# Altium footprint library IPC-SM-782 Section 14.1.3 PBGA 1.0mm.PcbLib: 50 footprints (part 12 of 14)
Each footprint in its own frame and in the unit in brackets; x right, y up, seen from the top. Pads: shape width x height; smd on the part's side, far side on the other; paste and mask are expansions set on the pad; w line width, h text height; cw(c..) or ccw(c..) is an arc to the next point about the centre after c.
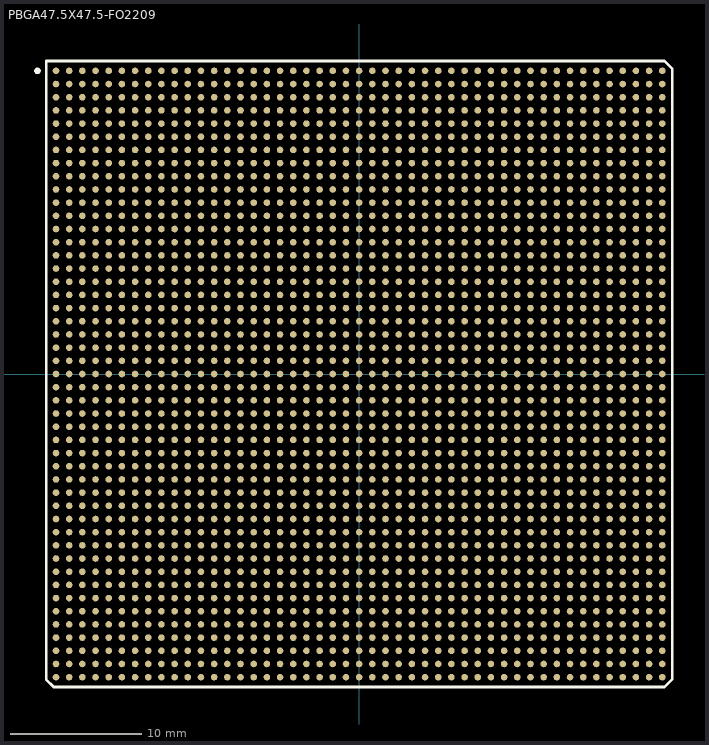
[diagram p11: the footprint, top view; thin cyan lines are the x and y axes]

## PBGA47.5X47.5-FO2209 [mm] "BGA; 2209 Balls; Body 47.5 x 47.5 mm; Pitch 1 mm"
height 3.5
pads (2209):
  round 0.5 smd: A1(-23,23) A2(-22,23) A3(-21,23) A4(-20,23) A5(-19,23) A6(-18,23) A7(-17,23) A8(-16,23) A9(-15,23) A10(-14,23) A11(-13,23) A12(-12,23) A13(-11,23) A14(-10,23) A15(-9,23) A16(-8,23) A17(-7,23) A18(-6,23) A19(-5,23) A20(-4,23) A21(-3,23) A22(-2,23) A23(-1,23) A24(0,23) A25(1,23) A26(2,23) A27(3,23) A28(4,23) A29(5,23) A30(6,23) A31(7,23) A32(8,23) A33(9,23) A34(10,23) A35(11,23) A36(12,23) A37(13,23) A38(14,23) A39(15,23) A40(16,23) A41(17,23) A42(18,23) A43(19,23) A44(20,23) A45(21,23) A46(22,23) A47(23,23) AA1(-23,3) AA2(-22,3) AA3(-21,3) AA4(-20,3) AA5(-19,3) AA6(-18,3) AA7(-17,3) AA8(-16,3) AA9(-15,3) AA10(-14,3) AA11(-13,3) AA12(-12,3) AA13(-11,3) AA14(-10,3) AA15(-9,3) AA16(-8,3) AA17(-7,3) AA18(-6,3) AA19(-5,3) AA20(-4,3) AA21(-3,3) AA22(-2,3) AA23(-1,3) AA24(0,3) AA25(1,3) AA26(2,3) AA27(3,3) AA28(4,3) AA29(5,3) AA30(6,3) AA31(7,3) AA32(8,3) AA33(9,3) AA34(10,3) AA35(11,3) AA36(12,3) AA37(13,3) AA38(14,3) AA39(15,3) AA40(16,3) AA41(17,3) AA42(18,3) AA43(19,3) AA44(20,3) AA45(21,3) AA46(22,3) AA47(23,3) AB1(-23,2) AB2(-22,2) AB3(-21,2) AB4(-20,2) AB5(-19,2) AB6(-18,2) AB7(-17,2) AB8(-16,2) AB9(-15,2) AB10(-14,2) AB11(-13,2) AB12(-12,2) AB13(-11,2) AB14(-10,2) AB15(-9,2) AB16(-8,2) AB17(-7,2) AB18(-6,2) AB19(-5,2) AB20(-4,2) AB21(-3,2) AB22(-2,2) AB23(-1,2) AB24(0,2) AB25(1,2) AB26(2,2) AB27(3,2) AB28(4,2) AB29(5,2) AB30(6,2) AB31(7,2) AB32(8,2) AB33(9,2) AB34(10,2) AB35(11,2) AB36(12,2) AB37(13,2) AB38(14,2) AB39(15,2) AB40(16,2) AB41(17,2) AB42(18,2) AB43(19,2) AB44(20,2) AB45(21,2) AB46(22,2) AB47(23,2) AC1(-23,1) AC2(-22,1) AC3(-21,1) AC4(-20,1) AC5(-19,1) AC6(-18,1) AC7(-17,1) AC8(-16,1) AC9(-15,1) AC10(-14,1) AC11(-13,1) AC12(-12,1) AC13(-11,1) AC14(-10,1) AC15(-9,1) AC16(-8,1) AC17(-7,1) AC18(-6,1) AC19(-5,1) AC20(-4,1) AC21(-3,1) AC22(-2,1) AC23(-1,1) AC24(0,1) AC25(1,1) AC26(2,1) AC27(3,1) AC28(4,1) AC29(5,1) AC30(6,1) AC31(7,1) AC32(8,1) AC33(9,1) AC34(10,1) AC35(11,1) AC36(12,1) AC37(13,1) AC38(14,1) AC39(15,1) AC40(16,1) AC41(17,1) AC42(18,1) AC43(19,1) AC44(20,1) AC45(21,1) AC46(22,1) AC47(23,1) AD1(-23,0) AD2(-22,0) AD3(-21,0) AD4(-20,0) AD5(-19,0) AD6(-18,0) AD7(-17,0) AD8(-16,0) AD9(-15,0) AD10(-14,0) AD11(-13,0) AD12(-12,0) AD13(-11,0) AD14(-10,0) AD15(-9,0) AD16(-8,0) AD17(-7,0) AD18(-6,0) AD19(-5,0) AD20(-4,0) AD21(-3,0) AD22(-2,0) AD23(-1,0) AD24(0,0) AD25(1,0) AD26(2,0) AD27(3,0) AD28(4,0) AD29(5,0) AD30(6,0) AD31(7,0) AD32(8,0) AD33(9,0) AD34(10,0) AD35(11,0) AD36(12,0) AD37(13,0) AD38(14,0) AD39(15,0) AD40(16,0) AD41(17,0) AD42(18,0) AD43(19,0) AD44(20,0) AD45(21,0) AD46(22,0) AD47(23,0) AE1(-23,-1) AE2(-22,-1) AE3(-21,-1) AE4(-20,-1) AE5(-19,-1) AE6(-18,-1) AE7(-17,-1) AE8(-16,-1) AE9(-15,-1) AE10(-14,-1) AE11(-13,-1) AE12(-12,-1) AE13(-11,-1) AE14(-10,-1) AE15(-9,-1) AE16(-8,-1) AE17(-7,-1) AE18(-6,-1) AE19(-5,-1) AE20(-4,-1) AE21(-3,-1) AE22(-2,-1) AE23(-1,-1) AE24(0,-1) AE25(1,-1) AE26(2,-1) AE27(3,-1) AE28(4,-1) AE29(5,-1) AE30(6,-1) AE31(7,-1) AE32(8,-1) AE33(9,-1) AE34(10,-1) AE35(11,-1) AE36(12,-1) AE37(13,-1) AE38(14,-1) AE39(15,-1) AE40(16,-1) AE41(17,-1) AE42(18,-1) AE43(19,-1) AE44(20,-1) AE45(21,-1) AE46(22,-1) AE47(23,-1) AF1(-23,-2) AF2(-22,-2) AF3(-21,-2) AF4(-20,-2) AF5(-19,-2) AF6(-18,-2) AF7(-17,-2) AF8(-16,-2) AF9(-15,-2) AF10(-14,-2) AF11(-13,-2) AF12(-12,-2) AF13(-11,-2) AF14(-10,-2) AF15(-9,-2) AF16(-8,-2) AF17(-7,-2) AF18(-6,-2) AF19(-5,-2) AF20(-4,-2) AF21(-3,-2) AF22(-2,-2) AF23(-1,-2) AF24(0,-2) AF25(1,-2) AF26(2,-2) AF27(3,-2) AF28(4,-2) AF29(5,-2) AF30(6,-2) AF31(7,-2) AF32(8,-2) AF33(9,-2) AF34(10,-2) AF35(11,-2) AF36(12,-2) AF37(13,-2) AF38(14,-2) AF39(15,-2) AF40(16,-2) AF41(17,-2) AF42(18,-2) AF43(19,-2) AF44(20,-2) AF45(21,-2) AF46(22,-2) AF47(23,-2) AG1(-23,-3) AG2(-22,-3) AG3(-21,-3) AG4(-20,-3) AG5(-19,-3) AG6(-18,-3) AG7(-17,-3) AG8(-16,-3) AG9(-15,-3) AG10(-14,-3) AG11(-13,-3) AG12(-12,-3) AG13(-11,-3) AG14(-10,-3) AG15(-9,-3) AG16(-8,-3) AG17(-7,-3) AG18(-6,-3) AG19(-5,-3) AG20(-4,-3) AG21(-3,-3) AG22(-2,-3) AG23(-1,-3) AG24(0,-3) AG25(1,-3) AG26(2,-3) AG27(3,-3) AG28(4,-3) AG29(5,-3) AG30(6,-3) AG31(7,-3) AG32(8,-3) AG33(9,-3) AG34(10,-3) AG35(11,-3) AG36(12,-3) AG37(13,-3) AG38(14,-3) AG39(15,-3) AG40(16,-3) AG41(17,-3) AG42(18,-3) AG43(19,-3) AG44(20,-3) AG45(21,-3) AG46(22,-3) AG47(23,-3) AH1(-23,-4) AH2(-22,-4) AH3(-21,-4) AH4(-20,-4) AH5(-19,-4) AH6(-18,-4) AH7(-17,-4) AH8(-16,-4) AH9(-15,-4) AH10(-14,-4) AH11(-13,-4) AH12(-12,-4) AH13(-11,-4) AH14(-10,-4) AH15(-9,-4) AH16(-8,-4) AH17(-7,-4) AH18(-6,-4) AH19(-5,-4) AH20(-4,-4) AH21(-3,-4) AH22(-2,-4) AH23(-1,-4) AH24(0,-4) AH25(1,-4) AH26(2,-4) AH27(3,-4) AH28(4,-4) AH29(5,-4) AH30(6,-4) AH31(7,-4) AH32(8,-4) AH33(9,-4) AH34(10,-4) AH35(11,-4) AH36(12,-4) AH37(13,-4) AH38(14,-4) AH39(15,-4) AH40(16,-4) AH41(17,-4) AH42(18,-4) AH43(19,-4) AH44(20,-4) AH45(21,-4) AH46(22,-4) AH47(23,-4) AJ1(-23,-5) AJ2(-22,-5) AJ3(-21,-5) AJ4(-20,-5) AJ5(-19,-5) AJ6(-18,-5) AJ7(-17,-5) AJ8(-16,-5) AJ9(-15,-5) AJ10(-14,-5) AJ11(-13,-5) AJ12(-12,-5) AJ13(-11,-5) AJ14(-10,-5) AJ15(-9,-5) AJ16(-8,-5) AJ17(-7,-5) AJ18(-6,-5) AJ19(-5,-5) AJ20(-4,-5) AJ21(-3,-5) AJ22(-2,-5) AJ23(-1,-5) AJ24(0,-5) AJ25(1,-5) AJ26(2,-5) AJ27(3,-5) AJ28(4,-5) AJ29(5,-5) AJ30(6,-5) AJ31(7,-5) AJ32(8,-5) AJ33(9,-5) AJ34(10,-5) AJ35(11,-5) AJ36(12,-5) AJ37(13,-5) AJ38(14,-5) AJ39(15,-5) AJ40(16,-5) AJ41(17,-5) AJ42(18,-5) AJ43(19,-5) AJ44(20,-5) AJ45(21,-5) AJ46(22,-5) AJ47(23,-5) AK1(-23,-6) AK2(-22,-6) AK3(-21,-6) AK4(-20,-6) AK5(-19,-6) AK6(-18,-6) AK7(-17,-6) AK8(-16,-6) AK9(-15,-6) AK10(-14,-6) AK11(-13,-6) AK12(-12,-6) AK13(-11,-6) AK14(-10,-6) AK15(-9,-6) AK16(-8,-6) AK17(-7,-6) AK18(-6,-6) AK19(-5,-6) AK20(-4,-6) AK21(-3,-6) AK22(-2,-6) AK23(-1,-6) AK24(0,-6) AK25(1,-6) AK26(2,-6) AK27(3,-6) AK28(4,-6) AK29(5,-6) AK30(6,-6) AK31(7,-6) AK32(8,-6) AK33(9,-6) AK34(10,-6) AK35(11,-6) AK36(12,-6) AK37(13,-6) AK38(14,-6) AK39(15,-6) AK40(16,-6) AK41(17,-6) AK42(18,-6) AK43(19,-6) AK44(20,-6) AK45(21,-6) AK46(22,-6) AK47(23,-6) AL1(-23,-7) AL2(-22,-7) AL3(-21,-7) AL4(-20,-7) AL5(-19,-7) AL6(-18,-7) AL7(-17,-7) AL8(-16,-7) AL9(-15,-7) AL10(-14,-7) AL11(-13,-7) AL12(-12,-7) AL13(-11,-7) AL14(-10,-7) AL15(-9,-7) AL16(-8,-7) AL17(-7,-7) AL18(-6,-7) AL19(-5,-7) AL20(-4,-7) AL21(-3,-7) AL22(-2,-7) AL23(-1,-7) AL24(0,-7) AL25(1,-7) AL26(2,-7) AL27(3,-7) AL28(4,-7) AL29(5,-7) AL30(6,-7) AL31(7,-7) AL32(8,-7) AL33(9,-7) AL34(10,-7) AL35(11,-7) AL36(12,-7) AL37(13,-7) AL38(14,-7) AL39(15,-7) AL40(16,-7) AL41(17,-7) AL42(18,-7) AL43(19,-7) AL44(20,-7) AL45(21,-7) AL46(22,-7) AL47(23,-7) AM1(-23,-8) AM2(-22,-8) AM3(-21,-8) AM4(-20,-8) AM5(-19,-8) AM6(-18,-8) AM7(-17,-8) AM8(-16,-8) AM9(-15,-8) AM10(-14,-8) AM11(-13,-8) AM12(-12,-8) AM13(-11,-8) AM14(-10,-8) AM15(-9,-8) AM16(-8,-8) AM17(-7,-8) AM18(-6,-8) AM19(-5,-8) AM20(-4,-8) AM21(-3,-8) AM22(-2,-8) AM23(-1,-8) AM24(0,-8) AM25(1,-8) AM26(2,-8) AM27(3,-8) AM28(4,-8) AM29(5,-8) AM30(6,-8) AM31(7,-8) AM32(8,-8) AM33(9,-8) AM34(10,-8) AM35(11,-8) AM36(12,-8) AM37(13,-8) AM38(14,-8) AM39(15,-8) AM40(16,-8) AM41(17,-8) AM42(18,-8) AM43(19,-8) AM44(20,-8) AM45(21,-8) AM46(22,-8) AM47(23,-8) AN1(-23,-9) AN2(-22,-9) AN3(-21,-9) AN4(-20,-9) AN5(-19,-9) AN6(-18,-9) AN7(-17,-9) AN8(-16,-9) AN9(-15,-9) AN10(-14,-9) AN11(-13,-9) AN12(-12,-9) AN13(-11,-9) AN14(-10,-9) AN15(-9,-9) AN16(-8,-9) AN17(-7,-9) AN18(-6,-9) AN19(-5,-9) AN20(-4,-9) AN21(-3,-9) AN22(-2,-9) AN23(-1,-9) AN24(0,-9) AN25(1,-9) AN26(2,-9) AN27(3,-9) AN28(4,-9) AN29(5,-9) AN30(6,-9) AN31(7,-9) AN32(8,-9) AN33(9,-9) AN34(10,-9) AN35(11,-9) AN36(12,-9) AN37(13,-9) AN38(14,-9) AN39(15,-9) AN40(16,-9) AN41(17,-9) AN42(18,-9) AN43(19,-9) AN44(20,-9) AN45(21,-9) AN46(22,-9) AN47(23,-9) AP1(-23,-10) AP2(-22,-10) AP3(-21,-10) AP4(-20,-10) AP5(-19,-10) AP6(-18,-10) AP7(-17,-10) AP8(-16,-10) AP9(-15,-10) AP10(-14,-10) AP11(-13,-10) AP12(-12,-10) AP13(-11,-10) AP14(-10,-10) AP15(-9,-10) AP16(-8,-10) AP17(-7,-10) AP18(-6,-10) AP19(-5,-10) AP20(-4,-10) AP21(-3,-10) AP22(-2,-10) AP23(-1,-10) AP24(0,-10) AP25(1,-10) AP26(2,-10) AP27(3,-10) AP28(4,-10) AP29(5,-10) AP30(6,-10) AP31(7,-10) AP32(8,-10) AP33(9,-10) AP34(10,-10) AP35(11,-10) AP36(12,-10) AP37(13,-10) AP38(14,-10) AP39(15,-10) AP40(16,-10) AP41(17,-10) AP42(18,-10) AP43(19,-10) AP44(20,-10) AP45(21,-10) AP46(22,-10) AP47(23,-10) AR1(-23,-11) AR2(-22,-11) AR3(-21,-11) AR4(-20,-11) AR5(-19,-11) AR6(-18,-11) AR7(-17,-11) AR8(-16,-11) AR9(-15,-11) AR10(-14,-11) AR11(-13,-11) AR12(-12,-11) AR13(-11,-11) AR14(-10,-11) AR15(-9,-11) AR16(-8,-11) AR17(-7,-11) AR18(-6,-11) AR19(-5,-11) AR20(-4,-11) AR21(-3,-11) AR22(-2,-11) AR23(-1,-11) AR24(0,-11) AR25(1,-11) AR26(2,-11) AR27(3,-11) AR28(4,-11) AR29(5,-11) AR30(6,-11) AR31(7,-11) AR32(8,-11) AR33(9,-11) AR34(10,-11) AR35(11,-11) AR36(12,-11) AR37(13,-11) AR38(14,-11) AR39(15,-11) AR40(16,-11) AR41(17,-11) AR42(18,-11) AR43(19,-11) AR44(20,-11) AR45(21,-11) AR46(22,-11) AR47(23,-11) AT1(-23,-12) AT2(-22,-12) AT3(-21,-12) AT4(-20,-12) AT5(-19,-12) AT6(-18,-12) AT7(-17,-12) AT8(-16,-12) AT9(-15,-12) AT10(-14,-12) AT11(-13,-12) AT12(-12,-12) AT13(-11,-12) AT14(-10,-12) AT15(-9,-12) AT16(-8,-12) AT17(-7,-12) AT18(-6,-12) AT19(-5,-12) AT20(-4,-12) AT21(-3,-12) AT22(-2,-12) AT23(-1,-12) AT24(0,-12) AT25(1,-12) AT26(2,-12) AT27(3,-12) AT28(4,-12) AT29(5,-12) AT30(6,-12) AT31(7,-12) AT32(8,-12) AT33(9,-12) AT34(10,-12) AT35(11,-12) AT36(12,-12) AT37(13,-12) AT38(14,-12) AT39(15,-12) AT40(16,-12) AT41(17,-12) AT42(18,-12) AT43(19,-12) AT44(20,-12) AT45(21,-12) AT46(22,-12) AT47(23,-12) AU1(-23,-13) AU2(-22,-13) AU3(-21,-13) AU4(-20,-13) AU5(-19,-13) AU6(-18,-13) AU7(-17,-13) AU8(-16,-13) AU9(-15,-13) AU10(-14,-13) AU11(-13,-13) AU12(-12,-13) AU13(-11,-13) AU14(-10,-13) AU15(-9,-13) AU16(-8,-13) AU17(-7,-13) AU18(-6,-13) AU19(-5,-13) AU20(-4,-13) AU21(-3,-13) AU22(-2,-13) AU23(-1,-13) AU24(0,-13) AU25(1,-13) AU26(2,-13) AU27(3,-13) AU28(4,-13) AU29(5,-13) AU30(6,-13) AU31(7,-13) AU32(8,-13) AU33(9,-13) AU34(10,-13) AU35(11,-13) AU36(12,-13) AU37(13,-13) AU38(14,-13) AU39(15,-13) AU40(16,-13) AU41(17,-13) AU42(18,-13) AU43(19,-13) AU44(20,-13) AU45(21,-13) AU46(22,-13) AU47(23,-13) AV1(-23,-14) AV2(-22,-14) AV3(-21,-14) AV4(-20,-14) AV5(-19,-14) AV6(-18,-14) AV7(-17,-14) AV8(-16,-14) AV9(-15,-14) AV10(-14,-14) AV11(-13,-14) AV12(-12,-14) AV13(-11,-14) AV14(-10,-14) AV15(-9,-14) AV16(-8,-14) AV17(-7,-14) AV18(-6,-14) AV19(-5,-14) AV20(-4,-14) AV21(-3,-14) AV22(-2,-14) AV23(-1,-14) AV24(0,-14) AV25(1,-14) AV26(2,-14) AV27(3,-14) AV28(4,-14) AV29(5,-14) AV30(6,-14) AV31(7,-14) AV32(8,-14) AV33(9,-14) AV34(10,-14) AV35(11,-14) AV36(12,-14) AV37(13,-14) AV38(14,-14) AV39(15,-14) AV40(16,-14) AV41(17,-14) AV42(18,-14) AV43(19,-14) AV44(20,-14) AV45(21,-14) AV46(22,-14) AV47(23,-14) AW1(-23,-15) AW2(-22,-15) AW3(-21,-15) AW4(-20,-15) AW5(-19,-15) AW6(-18,-15) AW7(-17,-15) AW8(-16,-15) AW9(-15,-15) AW10(-14,-15) AW11(-13,-15) AW12(-12,-15) AW13(-11,-15) AW14(-10,-15) AW15(-9,-15) AW16(-8,-15) AW17(-7,-15) AW18(-6,-15) AW19(-5,-15) AW20(-4,-15) AW21(-3,-15) AW22(-2,-15) AW23(-1,-15) AW24(0,-15) AW25(1,-15) AW26(2,-15) AW27(3,-15) AW28(4,-15) AW29(5,-15) AW30(6,-15) AW31(7,-15) AW32(8,-15) AW33(9,-15) AW34(10,-15) AW35(11,-15) AW36(12,-15) AW37(13,-15) AW38(14,-15) AW39(15,-15) AW40(16,-15) AW41(17,-15) AW42(18,-15) AW43(19,-15) AW44(20,-15) AW45(21,-15) AW46(22,-15) AW47(23,-15) AY1(-23,-16) AY2(-22,-16) AY3(-21,-16) AY4(-20,-16) AY5(-19,-16) AY6(-18,-16) AY7(-17,-16) AY8(-16,-16) AY9(-15,-16) AY10(-14,-16) AY11(-13,-16) AY12(-12,-16) AY13(-11,-16) AY14(-10,-16) AY15(-9,-16) AY16(-8,-16) AY17(-7,-16) AY18(-6,-16) AY19(-5,-16) AY20(-4,-16) AY21(-3,-16) AY22(-2,-16) AY23(-1,-16) AY24(0,-16) AY25(1,-16) AY26(2,-16) AY27(3,-16) AY28(4,-16) AY29(5,-16) AY30(6,-16) AY31(7,-16) AY32(8,-16) AY33(9,-16) AY34(10,-16) AY35(11,-16) AY36(12,-16) AY37(13,-16) AY38(14,-16) AY39(15,-16) AY40(16,-16) AY41(17,-16) AY42(18,-16) AY43(19,-16) AY44(20,-16) AY45(21,-16) AY46(22,-16) AY47(23,-16) B1(-23,22) B2(-22,22) B3(-21,22) B4(-20,22) B5(-19,22) B6(-18,22) B7(-17,22) B8(-16,22) B9(-15,22) B10(-14,22) B11(-13,22) B12(-12,22) B13(-11,22) B14(-10,22) B15(-9,22) B16(-8,22) B17(-7,22) B18(-6,22) B19(-5,22) B20(-4,22) B21(-3,22) B22(-2,22) B23(-1,22) B24(0,22) B25(1,22) B26(2,22) B27(3,22) B28(4,22) B29(5,22) B30(6,22) B31(7,22) B32(8,22) B33(9,22) B34(10,22) B35(11,22) B36(12,22) B37(13,22) B38(14,22) B39(15,22) B40(16,22) B41(17,22) B42(18,22) B43(19,22) B44(20,22) B45(21,22) B46(22,22) B47(23,22) BA1(-23,-17) BA2(-22,-17) BA3(-21,-17) BA4(-20,-17) BA5(-19,-17) BA6(-18,-17) BA7(-17,-17) BA8(-16,-17) BA9(-15,-17) BA10(-14,-17) BA11(-13,-17) BA12(-12,-17) BA13(-11,-17) BA14(-10,-17) BA15(-9,-17) BA16(-8,-17) BA17(-7,-17) BA18(-6,-17) BA19(-5,-17) BA20(-4,-17) BA21(-3,-17) BA22(-2,-17) BA23(-1,-17) BA24(0,-17) BA25(1,-17) BA26(2,-17) BA27(3,-17) BA28(4,-17) BA29(5,-17) BA30(6,-17) BA31(7,-17) BA32(8,-17) BA33(9,-17) BA34(10,-17) BA35(11,-17) BA36(12,-17) BA37(13,-17) BA38(14,-17) BA39(15,-17) BA40(16,-17) BA41(17,-17) BA42(18,-17) BA43(19,-17) BA44(20,-17) BA45(21,-17) BA46(22,-17) BA47(23,-17) BB1(-23,-18) BB2(-22,-18) BB3(-21,-18) BB4(-20,-18) BB5(-19,-18) BB6(-18,-18) BB7(-17,-18) BB8(-16,-18) BB9(-15,-18) BB10(-14,-18) BB11(-13,-18) BB12(-12,-18) BB13(-11,-18) BB14(-10,-18) BB15(-9,-18) BB16(-8,-18) BB17(-7,-18) BB18(-6,-18) BB19(-5,-18) BB20(-4,-18) BB21(-3,-18) BB22(-2,-18) BB23(-1,-18) BB24(0,-18) BB25(1,-18) BB26(2,-18) BB27(3,-18) BB28(4,-18) BB29(5,-18) BB30(6,-18) BB31(7,-18) BB32(8,-18) BB33(9,-18) BB34(10,-18) BB35(11,-18) BB36(12,-18) BB37(13,-18) BB38(14,-18) BB39(15,-18) BB40(16,-18) BB41(17,-18) BB42(18,-18) BB43(19,-18) BB44(20,-18) BB45(21,-18) BB46(22,-18) BB47(23,-18) BC1(-23,-19) BC2(-22,-19) BC3(-21,-19) BC4(-20,-19) BC5(-19,-19) BC6(-18,-19) BC7(-17,-19) BC8(-16,-19) BC9(-15,-19) BC10(-14,-19) BC11(-13,-19) BC12(-12,-19) BC13(-11,-19) BC14(-10,-19) BC15(-9,-19) BC16(-8,-19) BC17(-7,-19) BC18(-6,-19) BC19(-5,-19) BC20(-4,-19) BC21(-3,-19) BC22(-2,-19) BC23(-1,-19) BC24(0,-19) BC25(1,-19) BC26(2,-19) BC27(3,-19) BC28(4,-19) BC29(5,-19) BC30(6,-19) BC31(7,-19) BC32(8,-19) BC33(9,-19) BC34(10,-19) BC35(11,-19) BC36(12,-19) BC37(13,-19) BC38(14,-19) BC39(15,-19) BC40(16,-19) BC41(17,-19) BC42(18,-19) BC43(19,-19) BC44(20,-19) BC45(21,-19) BC46(22,-19) BC47(23,-19) BD1(-23,-20) BD2(-22,-20) BD3(-21,-20) BD4(-20,-20) BD5(-19,-20) BD6(-18,-20) BD7(-17,-20) BD8(-16,-20) BD9(-15,-20) BD10(-14,-20) BD11(-13,-20) BD12(-12,-20) BD13(-11,-20) BD14(-10,-20) BD15(-9,-20) BD16(-8,-20) BD17(-7,-20) BD18(-6,-20) BD19(-5,-20) BD20(-4,-20) BD21(-3,-20) BD22(-2,-20) BD23(-1,-20) BD24(0,-20) BD25(1,-20) BD26(2,-20) BD27(3,-20) BD28(4,-20) BD29(5,-20) BD30(6,-20) BD31(7,-20) BD32(8,-20) BD33(9,-20) BD34(10,-20) BD35(11,-20) BD36(12,-20) BD37(13,-20) BD38(14,-20) BD39(15,-20) BD40(16,-20) BD41(17,-20) BD42(18,-20) BD43(19,-20) BD44(20,-20) BD45(21,-20) BD46(22,-20) BD47(23,-20) BE1(-23,-21) BE2(-22,-21) BE3(-21,-21) BE4(-20,-21) BE5(-19,-21) BE6(-18,-21) BE7(-17,-21) BE8(-16,-21) BE9(-15,-21) BE10(-14,-21) BE11(-13,-21) BE12(-12,-21) BE13(-11,-21) BE14(-10,-21) BE15(-9,-21) BE16(-8,-21) BE17(-7,-21) BE18(-6,-21) BE19(-5,-21) BE20(-4,-21) BE21(-3,-21) BE22(-2,-21) BE23(-1,-21) BE24(0,-21) BE25(1,-21) BE26(2,-21) BE27(3,-21) BE28(4,-21) BE29(5,-21) BE30(6,-21) BE31(7,-21) BE32(8,-21) BE33(9,-21) BE34(10,-21) BE35(11,-21) BE36(12,-21) BE37(13,-21) BE38(14,-21) BE39(15,-21) BE40(16,-21) BE41(17,-21) BE42(18,-21) BE43(19,-21) BE44(20,-21) BE45(21,-21) BE46(22,-21) BE47(23,-21) BF1(-23,-22) BF2(-22,-22) BF3(-21,-22) BF4(-20,-22) BF5(-19,-22) BF6(-18,-22) BF7(-17,-22) BF8(-16,-22) BF9(-15,-22) BF10(-14,-22) BF11(-13,-22) BF12(-12,-22) BF13(-11,-22) BF14(-10,-22) BF15(-9,-22) BF16(-8,-22) BF17(-7,-22) BF18(-6,-22) BF19(-5,-22) BF20(-4,-22) BF21(-3,-22) BF22(-2,-22) BF23(-1,-22) BF24(0,-22) BF25(1,-22) BF26(2,-22) BF27(3,-22) BF28(4,-22) BF29(5,-22) BF30(6,-22) BF31(7,-22) BF32(8,-22) BF33(9,-22) BF34(10,-22) BF35(11,-22) BF36(12,-22) BF37(13,-22) BF38(14,-22) BF39(15,-22) BF40(16,-22) BF41(17,-22) BF42(18,-22) BF43(19,-22) BF44(20,-22) BF45(21,-22) BF46(22,-22) BF47(23,-22) BG1(-23,-23) BG2(-22,-23) BG3(-21,-23) BG4(-20,-23) BG5(-19,-23) BG6(-18,-23) BG7(-17,-23) BG8(-16,-23) BG9(-15,-23) BG10(-14,-23) BG11(-13,-23) BG12(-12,-23) BG13(-11,-23) BG14(-10,-23) BG15(-9,-23) BG16(-8,-23) BG17(-7,-23) BG18(-6,-23) BG19(-5,-23) BG20(-4,-23) BG21(-3,-23) BG22(-2,-23) BG23(-1,-23) BG24(0,-23) BG25(1,-23) BG26(2,-23) BG27(3,-23) BG28(4,-23) BG29(5,-23) BG30(6,-23) BG31(7,-23) BG32(8,-23) BG33(9,-23) BG34(10,-23) BG35(11,-23) BG36(12,-23) BG37(13,-23) BG38(14,-23) BG39(15,-23) BG40(16,-23) BG41(17,-23) BG42(18,-23) BG43(19,-23) BG44(20,-23) BG45(21,-23) BG46(22,-23) BG47(23,-23) C1(-23,21) C2(-22,21) C3(-21,21) C4(-20,21) C5(-19,21) C6(-18,21) C7(-17,21) C8(-16,21) C9(-15,21) C10(-14,21) C11(-13,21) C12(-12,21) C13(-11,21) C14(-10,21) C15(-9,21) C16(-8,21) C17(-7,21) C18(-6,21) C19(-5,21) C20(-4,21) C21(-3,21) C22(-2,21) C23(-1,21) C24(0,21) C25(1,21) C26(2,21) C27(3,21) C28(4,21) C29(5,21) C30(6,21) C31(7,21) C32(8,21) C33(9,21) C34(10,21) C35(11,21) C36(12,21) C37(13,21) C38(14,21) C39(15,21) C40(16,21) C41(17,21) C42(18,21) C43(19,21) C44(20,21) C45(21,21) C46(22,21) C47(23,21) D1(-23,20) D2(-22,20) D3(-21,20) D4(-20,20) D5(-19,20) D6(-18,20) D7(-17,20) D8(-16,20) D9(-15,20) D10(-14,20) D11(-13,20) D12(-12,20) D13(-11,20) D14(-10,20) D15(-9,20) D16(-8,20) D17(-7,20) D18(-6,20) D19(-5,20) D20(-4,20) D21(-3,20) D22(-2,20) D23(-1,20) D24(0,20) D25(1,20) D26(2,20) D27(3,20) D28(4,20) D29(5,20) D30(6,20) D31(7,20) D32(8,20) D33(9,20) D34(10,20) D35(11,20) D36(12,20) D37(13,20) D38(14,20) D39(15,20) D40(16,20) D41(17,20) D42(18,20) D43(19,20) D44(20,20) D45(21,20) D46(22,20) D47(23,20) E1(-23,19) E2(-22,19) E3(-21,19) E4(-20,19) E5(-19,19) E6(-18,19) E7(-17,19) E8(-16,19) E9(-15,19) E10(-14,19) E11(-13,19) E12(-12,19) E13(-11,19) E14(-10,19) E15(-9,19) E16(-8,19) E17(-7,19) E18(-6,19) E19(-5,19) E20(-4,19) E21(-3,19) E22(-2,19) E23(-1,19) E24(0,19) E25(1,19) E26(2,19) E27(3,19) E28(4,19) E29(5,19) E30(6,19) E31(7,19) E32(8,19) E33(9,19) E34(10,19) E35(11,19) E36(12,19) E37(13,19) E38(14,19) E39(15,19) E40(16,19) E41(17,19) E42(18,19) E43(19,19) E44(20,19) E45(21,19) E46(22,19) E47(23,19) F1(-23,18) F2(-22,18) F3(-21,18) F4(-20,18) F5(-19,18) F6(-18,18) F7(-17,18) F8(-16,18) F9(-15,18) F10(-14,18) F11(-13,18) F12(-12,18) F13(-11,18) F14(-10,18) F15(-9,18) F16(-8,18) F17(-7,18) F18(-6,18) F19(-5,18) F20(-4,18) F21(-3,18) F22(-2,18) F23(-1,18) F24(0,18) F25(1,18) F26(2,18) F27(3,18) F28(4,18) F29(5,18) F30(6,18) F31(7,18) F32(8,18) F33(9,18) F34(10,18) F35(11,18) F36(12,18) F37(13,18) F38(14,18) F39(15,18) F40(16,18) F41(17,18) F42(18,18) F43(19,18) F44(20,18) F45(21,18) F46(22,18) F47(23,18) G1(-23,17) G2(-22,17) G3(-21,17) G4(-20,17) G5(-19,17) G6(-18,17) G7(-17,17) G8(-16,17) G9(-15,17) G10(-14,17) G11(-13,17) G12(-12,17) G13(-11,17) G14(-10,17) G15(-9,17) G16(-8,17) G17(-7,17) G18(-6,17) G19(-5,17) G20(-4,17) G21(-3,17) G22(-2,17) G23(-1,17) G24(0,17) G25(1,17) G26(2,17) G27(3,17) G28(4,17) G29(5,17) G30(6,17) G31(7,17) G32(8,17) G33(9,17) G34(10,17) G35(11,17) G36(12,17) G37(13,17) G38(14,17) G39(15,17) G40(16,17) G41(17,17) G42(18,17) G43(19,17) G44(20,17) G45(21,17) G46(22,17) G47(23,17) H1(-23,16) H2(-22,16) H3(-21,16) H4(-20,16) H5(-19,16) H6(-18,16) H7(-17,16) H8(-16,16) H9(-15,16) H10(-14,16) H11(-13,16) H12(-12,16) H13(-11,16) H14(-10,16) H15(-9,16) H16(-8,16) H17(-7,16) H18(-6,16) H19(-5,16) H20(-4,16) H21(-3,16) H22(-2,16) H23(-1,16) H24(0,16) H25(1,16) H26(2,16) H27(3,16) H28(4,16) H29(5,16) H30(6,16) H31(7,16) H32(8,16) H33(9,16) H34(10,16) H35(11,16) H36(12,16) H37(13,16) H38(14,16) H39(15,16) H40(16,16) H41(17,16) H42(18,16) H43(19,16) H44(20,16) H45(21,16) H46(22,16) H47(23,16) J1(-23,15) J2(-22,15) J3(-21,15) J4(-20,15) J5(-19,15) J6(-18,15) J7(-17,15) J8(-16,15) J9(-15,15) J10(-14,15) J11(-13,15) J12(-12,15) J13(-11,15) J14(-10,15) J15(-9,15) J16(-8,15) J17(-7,15) J18(-6,15) J19(-5,15) J20(-4,15) J21(-3,15) J22(-2,15) J23(-1,15) J24(0,15) J25(1,15) J26(2,15) J27(3,15) J28(4,15) J29(5,15) J30(6,15) J31(7,15) J32(8,15) J33(9,15) J34(10,15) J35(11,15) J36(12,15) J37(13,15) J38(14,15) J39(15,15) J40(16,15) J41(17,15) J42(18,15) J43(19,15) J44(20,15) J45(21,15) J46(22,15) J47(23,15) K1(-23,14) K2(-22,14) K3(-21,14) K4(-20,14) K5(-19,14) K6(-18,14) K7(-17,14) K8(-16,14) K9(-15,14) K10(-14,14) K11(-13,14) K12(-12,14) K13(-11,14) K14(-10,14) K15(-9,14) K16(-8,14) K17(-7,14) K18(-6,14) K19(-5,14) K20(-4,14) K21(-3,14) K22(-2,14) K23(-1,14) K24(0,14) K25(1,14) K26(2,14) K27(3,14) K28(4,14) K29(5,14) K30(6,14) K31(7,14) K32(8,14) K33(9,14) K34(10,14) K35(11,14) K36(12,14) K37(13,14) K38(14,14) K39(15,14) K40(16,14) K41(17,14) K42(18,14) K43(19,14) K44(20,14) K45(21,14) K46(22,14) K47(23,14) L1(-23,13) L2(-22,13) L3(-21,13) L4(-20,13) L5(-19,13) L6(-18,13) L7(-17,13) L8(-16,13) L9(-15,13) L10(-14,13) L11(-13,13) L12(-12,13) L13(-11,13) L14(-10,13) L15(-9,13) L16(-8,13) L17(-7,13) L18(-6,13) L19(-5,13) L20(-4,13) L21(-3,13) L22(-2,13) L23(-1,13) L24(0,13) L25(1,13) L26(2,13) L27(3,13) L28(4,13) L29(5,13) L30(6,13) L31(7,13) L32(8,13) L33(9,13) L34(10,13) L35(11,13) L36(12,13) L37(13,13) L38(14,13) L39(15,13) L40(16,13) L41(17,13) L42(18,13) L43(19,13) L44(20,13) L45(21,13) L46(22,13) L47(23,13) M1(-23,12) M2(-22,12) M3(-21,12) M4(-20,12) M5(-19,12) M6(-18,12) M7(-17,12) M8(-16,12) M9(-15,12) M10(-14,12) M11(-13,12) M12(-12,12) M13(-11,12) M14(-10,12) M15(-9,12) M16(-8,12) M17(-7,12) M18(-6,12) M19(-5,12) M20(-4,12) M21(-3,12) M22(-2,12) M23(-1,12) M24(0,12) M25(1,12) M26(2,12) M27(3,12) M28(4,12) M29(5,12) M30(6,12) M31(7,12) M32(8,12) M33(9,12) M34(10,12) M35(11,12) M36(12,12) M37(13,12) M38(14,12) M39(15,12) M40(16,12) M41(17,12) M42(18,12) M43(19,12) M44(20,12) M45(21,12) M46(22,12) M47(23,12) N1(-23,11) N2(-22,11) N3(-21,11) N4(-20,11) N5(-19,11) N6(-18,11) N7(-17,11) N8(-16,11) N9(-15,11) N10(-14,11) N11(-13,11) N12(-12,11) N13(-11,11) N14(-10,11) N15(-9,11) N16(-8,11) N17(-7,11) N18(-6,11) N19(-5,11) N20(-4,11) N21(-3,11) N22(-2,11) N23(-1,11) N24(0,11) N25(1,11) N26(2,11) N27(3,11) N28(4,11) N29(5,11) N30(6,11) N31(7,11) N32(8,11) N33(9,11) N34(10,11) N35(11,11) N36(12,11) N37(13,11) N38(14,11) N39(15,11) N40(16,11) N41(17,11) N42(18,11) N43(19,11) N44(20,11) N45(21,11) N46(22,11) N47(23,11) P1(-23,10) P2(-22,10) P3(-21,10) P4(-20,10) P5(-19,10) P6(-18,10) P7(-17,10) P8(-16,10) P9(-15,10) P10(-14,10) P11(-13,10) P12(-12,10) P13(-11,10) P14(-10,10) P15(-9,10) P16(-8,10) P17(-7,10) P18(-6,10) P19(-5,10) P20(-4,10) P21(-3,10) P22(-2,10) P23(-1,10) P24(0,10) P25(1,10) P26(2,10) P27(3,10) P28(4,10) P29(5,10) P30(6,10) P31(7,10) P32(8,10) P33(9,10) P34(10,10) P35(11,10) P36(12,10) P37(13,10) P38(14,10) P39(15,10) P40(16,10) P41(17,10) P42(18,10) P43(19,10) P44(20,10) P45(21,10) P46(22,10) P47(23,10) R1(-23,9) R2(-22,9) R3(-21,9) R4(-20,9) R5(-19,9) R6(-18,9) R7(-17,9) R8(-16,9) R9(-15,9) R10(-14,9) R11(-13,9) R12(-12,9) R13(-11,9) R14(-10,9) R15(-9,9) R16(-8,9) R17(-7,9) R18(-6,9) R19(-5,9) R20(-4,9) R21(-3,9) R22(-2,9) R23(-1,9) R24(0,9) R25(1,9) R26(2,9) R27(3,9) R28(4,9) R29(5,9) R30(6,9) R31(7,9) R32(8,9) R33(9,9) R34(10,9) R35(11,9) R36(12,9) R37(13,9) R38(14,9) R39(15,9) R40(16,9) R41(17,9) R42(18,9) R43(19,9) R44(20,9) R45(21,9) R46(22,9) R47(23,9) T1(-23,8) T2(-22,8) T3(-21,8) T4(-20,8) T5(-19,8) T6(-18,8) T7(-17,8) T8(-16,8) T9(-15,8) T10(-14,8) T11(-13,8) T12(-12,8) T13(-11,8) T14(-10,8) T15(-9,8) T16(-8,8) T17(-7,8) T18(-6,8) T19(-5,8) T20(-4,8) T21(-3,8) T22(-2,8) T23(-1,8) T24(0,8) T25(1,8) T26(2,8) T27(3,8) T28(4,8) T29(5,8) T30(6,8) T31(7,8) T32(8,8) T33(9,8) T34(10,8) T35(11,8) T36(12,8) T37(13,8) T38(14,8) T39(15,8) T40(16,8) T41(17,8) T42(18,8) T43(19,8) T44(20,8) T45(21,8) T46(22,8) T47(23,8) U1(-23,7) U2(-22,7) U3(-21,7) U4(-20,7) U5(-19,7) U6(-18,7) U7(-17,7) U8(-16,7) U9(-15,7) U10(-14,7) U11(-13,7) U12(-12,7) U13(-11,7) U14(-10,7) U15(-9,7) U16(-8,7) U17(-7,7) U18(-6,7) U19(-5,7) U20(-4,7) U21(-3,7) U22(-2,7) U23(-1,7) U24(0,7) U25(1,7) U26(2,7) U27(3,7) U28(4,7) U29(5,7) U30(6,7) U31(7,7) U32(8,7) U33(9,7) U34(10,7) U35(11,7) U36(12,7) U37(13,7) U38(14,7) U39(15,7) U40(16,7) U41(17,7) U42(18,7) U43(19,7) U44(20,7) U45(21,7) U46(22,7) U47(23,7) V1(-23,6) V2(-22,6) V3(-21,6) V4(-20,6) V5(-19,6) V6(-18,6) V7(-17,6) V8(-16,6) V9(-15,6) V10(-14,6) V11(-13,6) V12(-12,6) V13(-11,6) V14(-10,6) V15(-9,6) V16(-8,6) V17(-7,6) V18(-6,6) V19(-5,6) V20(-4,6) V21(-3,6) V22(-2,6) V23(-1,6) V24(0,6) V25(1,6) V26(2,6) V27(3,6) V28(4,6) V29(5,6) V30(6,6) V31(7,6) V32(8,6) V33(9,6) V34(10,6) V35(11,6) V36(12,6) V37(13,6) V38(14,6) V39(15,6) V40(16,6) V41(17,6) V42(18,6) V43(19,6) V44(20,6) V45(21,6) V46(22,6) V47(23,6) W1(-23,5) W2(-22,5) W3(-21,5) W4(-20,5) W5(-19,5) W6(-18,5) W7(-17,5) W8(-16,5) W9(-15,5) W10(-14,5) W11(-13,5) W12(-12,5) W13(-11,5) W14(-10,5) W15(-9,5) W16(-8,5) W17(-7,5) W18(-6,5) W19(-5,5) W20(-4,5) W21(-3,5) W22(-2,5) W23(-1,5) W24(0,5) W25(1,5) W26(2,5) W27(3,5) W28(4,5) W29(5,5) W30(6,5) W31(7,5) W32(8,5) W33(9,5) W34(10,5) W35(11,5) W36(12,5) W37(13,5) W38(14,5) W39(15,5) W40(16,5) W41(17,5) W42(18,5) W43(19,5) W44(20,5) W45(21,5) W46(22,5) W47(23,5) Y1(-23,4) Y2(-22,4) Y3(-21,4) Y4(-20,4) Y5(-19,4) Y6(-18,4) Y7(-17,4) Y8(-16,4) Y9(-15,4) Y10(-14,4) Y11(-13,4) Y12(-12,4) Y13(-11,4) Y14(-10,4) Y15(-9,4) Y16(-8,4) Y17(-7,4) Y18(-6,4) Y19(-5,4) Y20(-4,4) Y21(-3,4) Y22(-2,4) Y23(-1,4) Y24(0,4) Y25(1,4) Y26(2,4) Y27(3,4) Y28(4,4) Y29(5,4) Y30(6,4) Y31(7,4) Y32(8,4) Y33(9,4) Y34(10,4) Y35(11,4) Y36(12,4) Y37(13,4) Y38(14,4) Y39(15,4) Y40(16,4) Y41(17,4) Y42(18,4) Y43(19,4) Y44(20,4) Y45(21,4) Y46(22,4) Y47(23,4)
Top Overlay:
  circle w0.25: c-24.405,23 r0.125
  lines w0.2: -23.75,-23.169 -23.75,23.75 23.169,23.75 23.75,23.169 23.75,-23.169 23.169,-23.75 -23.169,-23.75 -23.75,-23.169